# EAGLE library part HEADER-2X8 (library old-4ms-main-parts)
SMT HEADER 2x8 Unshrouded: Cixi Langling LL1010-5C (HI TEMP 2*8PIN) Shrouded: Cixi Langling LL1007-3 (2*8PIN)
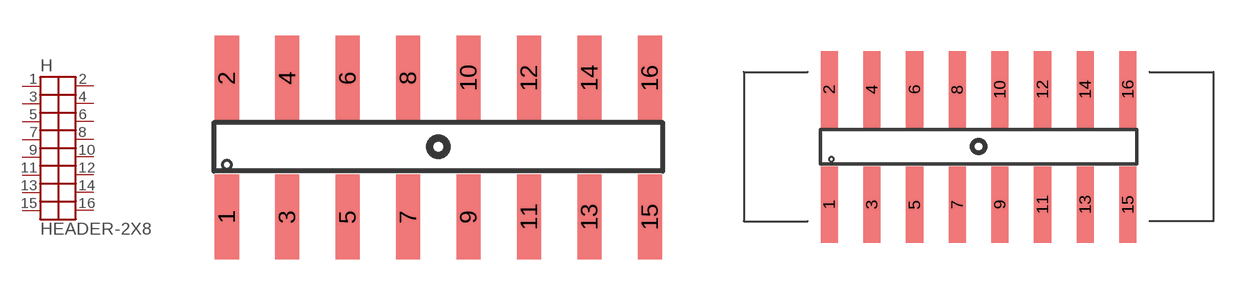
[diagram p2: symbol with the pads of HEADER-2X8-SMT; footprints HEADER-2X8-SMT, HEADER-2X8-SMT-SHROUDED]

Designator prefix H

## HEADER-2X8BARE  [HEADER-2X8-SMT]
1  P$1
2  P$2
3  P$3
4  P$4
5  P$5
6  P$6
7  P$7
8  P$8
9  P$9
10  P$10
11  P$11
12  P$12
13  P$13
14  P$14
15  P$15
16  P$16

## HEADER-2X8SHRD  [HEADER-2X8-SMT-SHROUDED]
Pads as for HEADER-2X8-SMT

## HEADER-2X8-TH  [HEADER-2X8-TH]
P$1  P$1
P$2  P$2
P$3  P$3
P$4  P$4
P$5  P$5
P$6  P$6
P$7  P$7
P$8  P$8
P$9  P$9
P$10  P$10
P$11  P$11
P$12  P$12
P$13  P$13
P$14  P$14
P$15  P$15
P$16  P$16

## Footprint HEADER-2X8-SMT (pad centres in mm)
smd 1.016 x 3.556: 1 -8.89,-2.95; 2 -8.89,2.899; 3 -6.35,-2.95; 4 -6.35,2.899; 5 -3.81,-2.95; 6 -3.81,2.899; 7 -1.27,-2.95; 8 -1.27,2.899; 9 1.27,-2.95; 10 1.27,2.899; 11 3.81,-2.95; 12 3.81,2.899; 13 6.35,-2.95; 14 6.35,2.899; 15 8.89,-2.95; 16 8.89,2.899

## Footprint HEADER-2X8-SMT-SHROUDED (pad centres in mm)
smd 1.016 x 4.572: 1 -8.89,-3.458; 2 -8.89,3.407; 3 -6.35,-3.458; 4 -6.35,3.407; 5 -3.81,-3.458; 6 -3.81,3.407; 7 -1.27,-3.458; 8 -1.27,3.407; 9 1.27,-3.458; 10 1.27,3.407; 11 3.81,-3.458; 12 3.81,3.407; 13 6.35,-3.458; 14 6.35,3.407; 15 8.89,-3.458; 16 8.89,3.407

## Footprint HEADER-2X8-TH (pad centres in mm)
drill 0.9 pad 1.651: P$1 -1.27,8.89; P$2 1.27,8.89; P$3 -1.27,6.35; P$4 1.27,6.35; P$5 -1.27,3.81; P$6 1.27,3.81; P$7 -1.27,1.27; P$8 1.27,1.27; P$9 -1.27,-1.27; P$10 1.27,-1.27; P$11 -1.27,-3.81; P$12 1.27,-3.81; P$13 -1.27,-6.35; P$14 1.27,-6.35; P$15 -1.27,-8.89; P$16 1.27,-8.89